# Altium schematic symbol library CONN - MOTOR PHASE.SchLib: 1 symbol
Pins are listed as number, name and electrical type; pins without a type are passive.

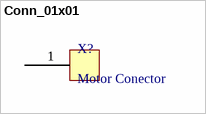
[diagram p0: symbol Conn_01x01]

## Conn_01x01
designator X?, comment Motor Conector
Generic connector, single row
footprint CONN_PHASE01x01 (Conector for motor2)
pins: 1 Conn